# Altium integrated library SparkFun-IC-Special-Function.Library.IntLib: 58 symbols
Pins are listed as number, name and electrical type; pins without a type are passive.

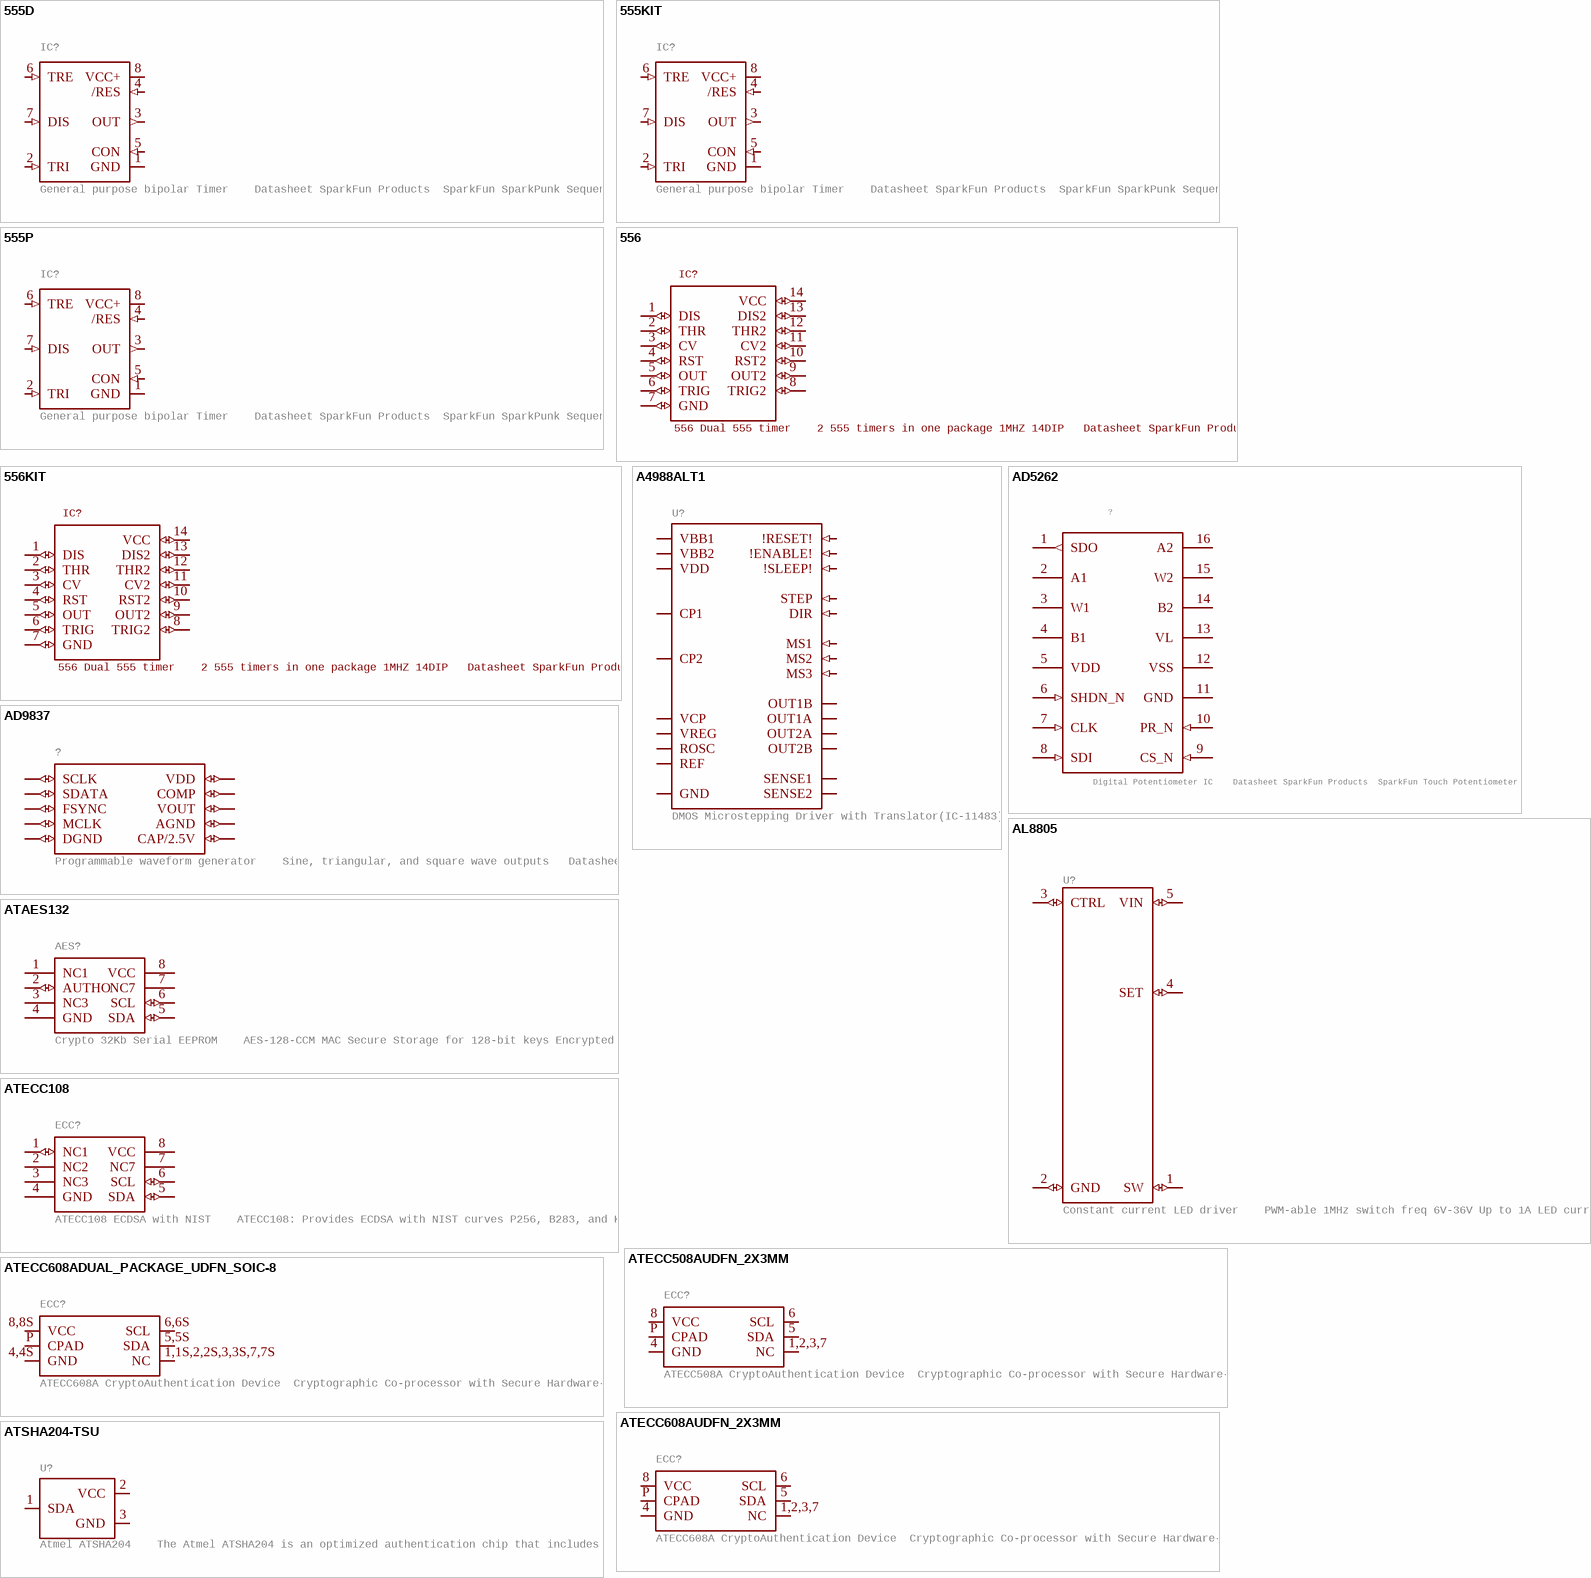
[diagram p0: symbols 555D to ATSHA204-TSU]

## 555D
designator IC?, comment General purpose bipolar Timer    Datasheet SparkFun Products  SparkFun SparkPunk Sequencer Kit (KIT-12707)  Storefront Component: 555 Timer (COM-09273)    Two parts valid for production:  VFP: IC-11930 (M7555 PTH) VFP: IC-09173 (555 PTH) - Preferred
GateName_1: G$1; SymbolName_1: NE555; DeviceName: D; DeviceSetName: 555; PROD_ID: NA-XXXXX; LibraryName: SparkFun-IC-Special-Function; Package: SO08
footprint SO08
pins: 1 GND (power), 2 TRI (in), 3 OUT (out), 4 /RES (in), 5 CON (in), 6 TRE (in), 7 DIS (in), 8 VCC+ (power)

## 555KIT
designator IC?, comment General purpose bipolar Timer    Datasheet SparkFun Products  SparkFun SparkPunk Sequencer Kit (KIT-12707)  Storefront Component: 555 Timer (COM-09273)    Two parts valid for production:  VFP: IC-11930 (M7555 PTH) VFP: IC-09173 (555 PTH) - Preferred
GateName_1: G$1; SymbolName_1: NE555; DeviceSetName: 555; DeviceName: KIT; LibraryName: SparkFun-IC-Special-Function; Package: DIP08-KIT; PROD_ID: IC-09173; PROD_ID_ALT: IC-11930
footprint DIP08-KIT
pins: 1 GND (power), 2 TRI (in), 3 OUT (out), 4 /RES (in), 5 CON (in), 6 TRE (in), 7 DIS (in), 8 VCC+ (power)

## 555P
designator IC?, comment General purpose bipolar Timer    Datasheet SparkFun Products  SparkFun SparkPunk Sequencer Kit (KIT-12707)  Storefront Component: 555 Timer (COM-09273)    Two parts valid for production:  VFP: IC-11930 (M7555 PTH) VFP: IC-09173 (555 PTH) - Preferred
GateName_1: G$1; SymbolName_1: NE555; DeviceName: P; DeviceSetName: 555; LibraryName: SparkFun-IC-Special-Function; Package: DIP08; PROD_ID: IC-09173; PROD_ID_ALT: IC-09173
footprint DIP08
pins: 1 GND (power), 2 TRI (in), 3 OUT (out), 4 /RES (in), 5 CON (in), 6 TRE (in), 7 DIS (in), 8 VCC+ (power)

## 556
designator IC?, comment 556 Dual 555 timer    2 555 timers in one package 1MHZ 14DIP   Datasheet SparkFun Products  SparkFun SparkPunk Sound Kit (KIT-11177)
GateName_1: G$1; SymbolName_1: 556_TIMER_DUAL; DeviceSetName: 556; PROD_ID: IC-11898; LibraryName: SparkFun-IC-Special-Function; Package: DIP14
footprint DIP14
pins: 1 DIS (io), 2 THR (io), 3 CV (io), 4 RST (io), 5 OUT (io), 6 TRIG (io), 7 GND (io), 8 TRIG2 (io), 9 OUT2 (io), 10 RST2 (io), 11 CV2 (io), 12 THR2 (io), 13 DIS2 (io), 14 VCC (io)

## 556KIT
designator IC?, comment 556 Dual 555 timer    2 555 timers in one package 1MHZ 14DIP   Datasheet SparkFun Products  SparkFun SparkPunk Sound Kit (KIT-11177)
GateName_1: G$1; SymbolName_1: 556_TIMER_DUAL; DeviceSetName: 556; PROD_ID: IC-11898; DeviceName: KIT; LibraryName: SparkFun-IC-Special-Function; Package: DIP14-KIT
footprint DIP14-KIT
pins: 1 DIS (io), 2 THR (io), 3 CV (io), 4 RST (io), 5 OUT (io), 6 TRIG (io), 7 GND (io), 8 TRIG2 (io), 9 OUT2 (io), 10 RST2 (io), 11 CV2 (io), 12 THR2 (io), 13 DIS2 (io), 14 VCC (io)

## A4988ALT1
designator U?, comment DMOS Microstepping Driver with Translator(IC-11483)
GateName_1: G$1; SymbolName_1: A498X; DeviceName: ALT1; DeviceSetName: A4988; LibraryName: SparkFun-IC-Special-Function; Package: QFN-28-5MM; PROD_ID: IC-11483
footprint QFN-28-5MM
pins: 1 OUT2B (io), 2 !ENABLE! (in), 3,18,29 GND (power), 4 CP1 (io), 5 CP2 (io), 6 VCP (io), 8 VREG (io), 9 MS1 (in), 10 MS2 (in), 11 MS3 (in), 12 !RESET! (in), 13 ROSC (io), 14 !SLEEP! (in), 15 VDD (power), 16 STEP (in), 17 REF (io), 19 DIR (in), 21 OUT1B (io), 22 VBB1 (io), 23 SENSE1 (io), 24 OUT1A (io), 26 OUT2A (io), 27 SENSE2 (io), 28 VBB2 (io)

## AD5262
designator ?, comment Digital Potentiometer IC    Datasheet SparkFun Products  SparkFun Touch Potentiometer (PRT-13144)
GateName_1: 1; SymbolName_1: AD5262; PROD_ID: IC-12358; LibraryName: SparkFun-IC-Special-Function; DeviceSetName: AD5262; Package: SSOP16
footprint SSOP16
pins: 1 SDO (out), 2 A1, 3 W1, 4 B1, 5 VDD (power), 6 SHDN_N (in), 7 CLK (in), 8 SDI (in), 9 CS_N (in), 10 PR_N (in), 11 GND (power), 12 VSS (power), 13 VL (power), 14 B2, 15 W2, 16 A2

## AD9837
designator ?, comment Programmable waveform generator    Sine, triangular, and square wave outputs   Datasheet SparkFun Products  SparkFun MiniGen - Pro Mini Signal Generator Shield (BOB-11420)
GateName_1: G1; SymbolName_1: AD9837; PROD_ID: IC-11223; LibraryName: SparkFun-IC-Special-Function; DeviceSetName: AD9837; Package: AD9837
footprint AD9837
pins: P$0,P$4 DGND (io), P$1 COMP (io), P$2 VDD (io), P$3 CAP/2.5V (io), P$5 MCLK (io), P$6 SDATA (io), P$7 SCLK (io), P$8 FSYNC (io), P$9 AGND (io), P$10 VOUT (io)

## AL8805
designator U?, comment Constant current LED driver    PWM-able 1MHz switch freq 6V-36V Up to 1A LED current
GateName_1: G$1; SymbolName_1: AL8805; PROD_ID: IC-11626; LibraryName: SparkFun-IC-Special-Function; DeviceSetName: AL8805; Package: SOT23-5
footprint SOT23-5
pins: 1 SW (io), 2 GND (io), 3 CTRL (io), 4 SET (io), 5 VIN (io)

## ATAES132
designator AES?, comment Crypto 32Kb Serial EEPROM    AES-128-CCM MAC Secure Storage for 128-bit keys Encrypted User Memory Readn and Write HWRNG 2.5V to 5.5V    Datasheet SparkFun Products  CryptoCape (DEV-12773)  SparkFun CryptoShield (DEV-13183)
GateName_1: G$1; SymbolName_1: ATAES132; PROD_ID: IC-11983; LibraryName: SparkFun-IC-Special-Function; DeviceSetName: ATAES132; Package: SO08
footprint SO08
pins: 1 NC1, 2 AUTHO (io), 3 NC3, 4 GND (power), 5 SDA (io), 6 SCL (io), 7 NC7, 8 VCC (power)

## ATECC108
designator ECC?, comment ATECC108 ECDSA with NIST    ATECC108: Provides ECDSA with NIST curves P256, B283, and K283.  Also, a RNG, 8.5Kb EEPROM.  2.0V - 5.5V.   Datasheet SparkFun Products  CryptoCape (DEV-12773)  SparkFun CryptoShield (DEV-13183)
GateName_1: G$1; PROD_ID: IC-11982; SymbolName_1: ATECC108; LibraryName: SparkFun-IC-Special-Function; DeviceSetName: ATECC108; Package: SO08
footprint SO08
pins: 1 NC1 (io), 2 NC2, 3 NC3, 4 GND (power), 5 SDA (io), 6 SCL (io), 7 NC7, 8 VCC (power)

## ATECC508AUDFN_2X3MM
designator ECC?, comment ATECC508A CryptoAuthentication Device  Cryptographic Co-processor with Secure Hardware-Based Key Storage  ECDSA: FIPS186-3 Elliptic Curve Digital Signature Algorithm  ECDH: FIPS SP800-56A Elliptic Curve Diffie-Hellman Algorithm   NIST Standard P256 Elliptic Curve Support  SHA-256 Hash Algorithm with HMAC Option  1 MHz Standard I2C Interface  2.0V to 5.5V Supply Voltage Range  1.8V to 5.5V IO levels          Datasheet SparkFun Products  SparkFun Cryptographic Co-Processor Breakout ATECC508A Qwiic (DEV-15573)
GateName_1: G$1; SymbolName_1: ATECC108-1; DeviceName: UDFN_2X3MM; PROD_ID: IC-14661; LibraryName: SparkFun-IC-Special-Function; DeviceSetName: ATECC508A; Package: UDFN_2X3MM
footprint UDFN_2X3MM
pins: 1,2,3,7 NC, 4 GND (power), 5 SDA (io), 6 SCL (io), 8 VCC (power), P CPAD (power)

## ATECC608ADUAL_PACKAGE_UDFN_SOIC-8
designator ECC?, comment ATECC608A CryptoAuthentication Device  Cryptographic Co-processor with Secure Hardware-Based Key Storage  ECDSA: FIPS186-3 Elliptic Curve Digital Signature Algorithm  ECDH: FIPS SP800-56A Elliptic Curve Diffie-Hellman Algorithm  AES Algorithm for encryption and decryption   NIST Standard P256 Elliptic Curve Support  SHA-256 Hash Algorithm with HMAC Option  1 MHz Standard I2C Interface  2.0V to 5.5V Supply Voltage Range  1.8V to 5.5V IO levels          Datasheet (summary) SparkFun Products  SparkFun Cryptographic Co-Processor Breakout - ATECC608A (Qwiic) (DEV-18077)
GateName_1: G$1; SymbolName_1: ATECCX08; DeviceName: DUAL_PACKAGE_UDFN_SOIC-8; PROD_ID: IC-15951; LibraryName: SparkFun-IC-Special-Function; DeviceSetName: ATECC608A; Package: DUAL_UDFN_2X3MM_SOIC-8
footprint DUAL_UDFN_2X3MM_SOIC-8
pins: 1,1S,2,2S,3,3S,7,7S NC, 4,4S GND (power), 5,5S SDA (io), 6,6S SCL (io), 8,8S VCC (power), P CPAD (power)

## ATECC608AUDFN_2X3MM
designator ECC?, comment ATECC608A CryptoAuthentication Device  Cryptographic Co-processor with Secure Hardware-Based Key Storage  ECDSA: FIPS186-3 Elliptic Curve Digital Signature Algorithm  ECDH: FIPS SP800-56A Elliptic Curve Diffie-Hellman Algorithm  AES Algorithm for encryption and decryption   NIST Standard P256 Elliptic Curve Support  SHA-256 Hash Algorithm with HMAC Option  1 MHz Standard I2C Interface  2.0V to 5.5V Supply Voltage Range  1.8V to 5.5V IO levels          Datasheet (summary) SparkFun Products  SparkFun Cryptographic Co-Processor Breakout - ATECC608A (Qwiic) (DEV-18077)
GateName_1: G$1; SymbolName_1: ATECCX08; DeviceName: UDFN_2X3MM; PROD_ID: IC-15933; LibraryName: SparkFun-IC-Special-Function; DeviceSetName: ATECC608A; Package: UDFN_2X3MM
footprint UDFN_2X3MM
pins: 1,2,3,7 NC, 4 GND (power), 5 SDA (io), 6 SCL (io), 8 VCC (power), P CPAD (power)

## ATSHA204-TSU
designator U?, comment Atmel ATSHA204    The Atmel ATSHA204 is an optimized authentication chip that includes a 4.5Kb EEPROM. This array can be used for storage of keys, miscellaneous read/write, read-only, password or secret data, and consumption tracking. Access to the various sections of memory can be restricted in a variety of ways and then the configuration locked to prevent changes.   Datasheet SparkFun Products  SparkFun Electric Imp Shield    SparkFun Electric Imp Breakout
GateName_1: G$1; DeviceName: -TSU; PROD_ID: IC-11208; SymbolName_1: ATSHA204; LibraryName: SparkFun-IC-Special-Function; DeviceSetName: ATSHA204; Package: SOT23-3
footprint SOT23-3
pins: 1 SDA (io), 2 VCC (io), 3 GND (io)

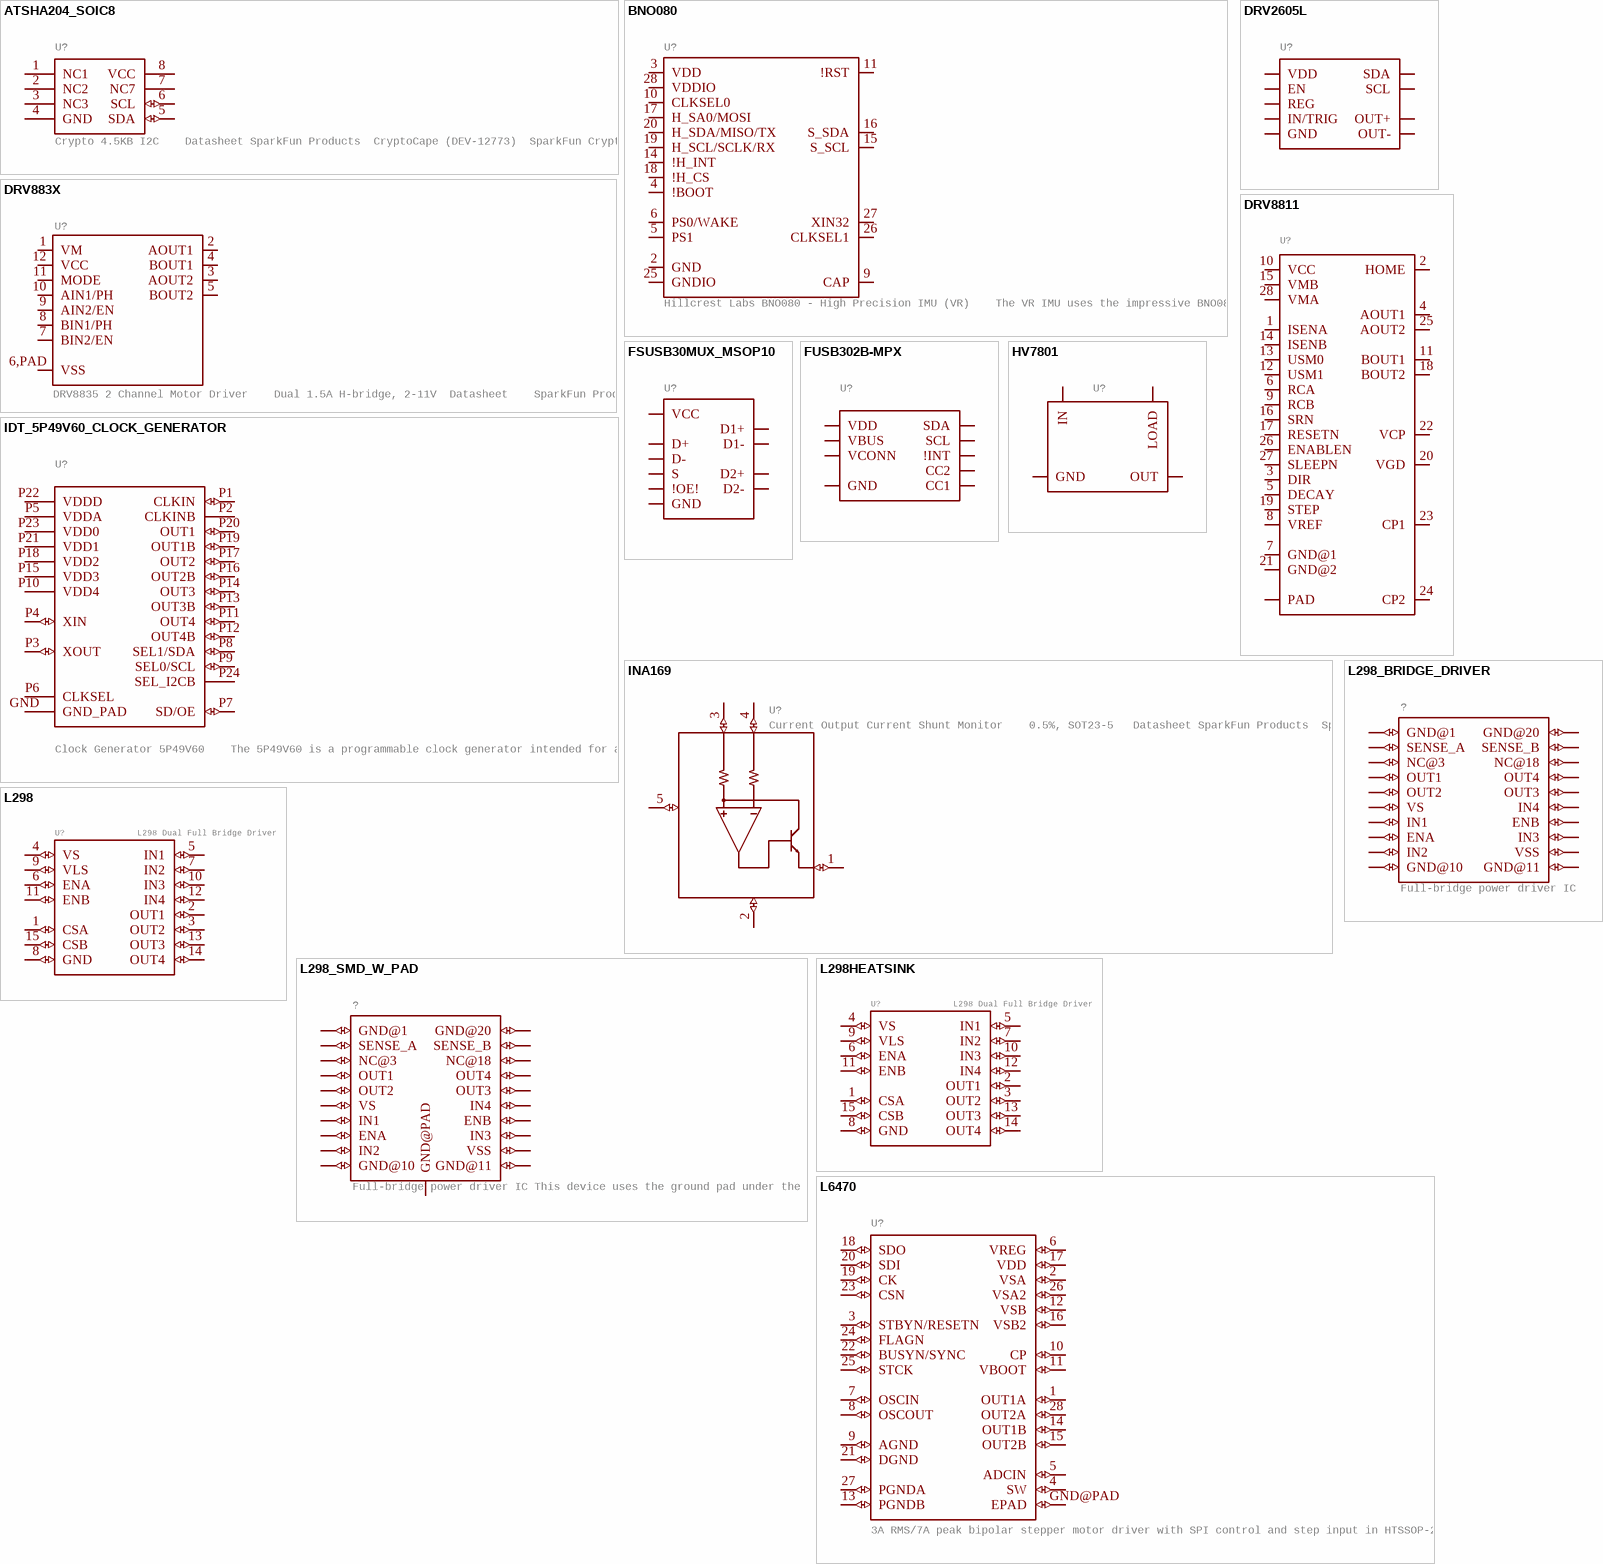
[diagram p1: symbols ATSHA204_SOIC8 to L6470]

## ATSHA204_SOIC8
designator U?, comment Crypto 4.5KB I2C    Datasheet SparkFun Products  CryptoCape (DEV-12773)  SparkFun CryptoShield (DEV-13183)
GateName_1: G$1; SymbolName_1: ATSHA204-1; DeviceSetName: ATSHA204_SOIC8; PROD_ID: IC-11981; LibraryName: SparkFun-IC-Special-Function; Package: SO08
footprint SO08
pins: 1 NC1, 2 NC2, 3 NC3, 4 GND (power), 5 SDA (io), 6 SCL (io), 7 NC7, 8 VCC (power)

## BNO080
designator U?, comment Hillcrest Labs BNO080 - High Precision IMU (VR)    The VR IMU uses the impressive BNO080 IMU. This IC has a combination triple axis accelerometer/gyro/magnetometer packaged with an ARM Cortex M0+ running powerful algorithms. The BNO080 Inertial Measurement Unit (IMU) produces accurate rotation vector headings, excellently suited for VR and other heading applications with a static rotation error of 2 degrees or less. Itâ€™s what weâ€™ve been waiting for: all the sensor data is combined and drift corrected into meaningful, accurate IMU information.   SparkFun Products: VR IMU (BNO080)
GateName_1: U1; SymbolName_1: BNO080-IMU; PROD_ID: SEN-13947; LibraryName: SparkFun-IC-Special-Function; DeviceSetName: BNO080; Package: LGA-28
footprint LGA-28
pins: 2 GND (io), 3 VDD (io), 4 !BOOT (io), 5 PS1 (io), 6 PS0/WAKE (io), 9 CAP (io), 10 CLKSEL0 (io), 11 !RST (io), 14 !H_INT (io), 15 S_SCL (io), 16 S_SDA (io), 17 H_SA0/MOSI (io), 18 !H_CS (io), 19 H_SCL/SCLK/RX (io), 20 H_SDA/MISO/TX (io), 25 GNDIO (io), 26 CLKSEL1 (io), 27 XIN32 (io), 28 VDDIO (io)

## DRV883X
designator U?, comment DRV8835 2 Channel Motor Driver    Dual 1.5A H-bridge, 2-11V  Datasheet    SparkFun Products: SparkFun Serial Controlled Motor Driver
GateName_1: G$1; DeviceSetName: DRV883X; PROD_ID: IC-13342; SymbolName_1: DRV8835; LibraryName: SparkFun-IC-Special-Function; Package: WSON-12
footprint WSON-12
pins: 1 VM (io), 2 AOUT1 (io), 3 AOUT2 (io), 4 BOUT1 (io), 5 BOUT2 (io), 6,PAD VSS (io), 7 BIN2/EN (io), 8 BIN1/PH (io), 9 AIN2/EN (io), 10 AIN1/PH (io), 11 MODE (io), 12 VCC (io)

## DRV2605L
designator U?
GateName_1: DRV2605; SymbolName_1: DRV2605L; PROD_ID: IC-13504; LibraryName: SparkFun-IC-Special-Function; DeviceSetName: DRV2605L; Package: VSSOP-10
footprint VSSOP-10
pins: 1 REG (io), 2 SCL (io), 3 SDA (io), 4 IN/TRIG (io), 5 EN (io), 6,10 VDD (io), 7 OUT+ (io), 8 GND (io), 9 OUT- (io)

## DRV8811
designator U?
GateName_1: G$1; SymbolName_1: DRV8811; PROD_ID: IC-12375; LibraryName: SparkFun-IC-Special-Function; DeviceSetName: DRV8811; Package: HTSSOP28
footprint HTSSOP28
pins: 1 ISENA (io), 2 HOME (io), 3 DIR (io), 4 AOUT1 (io), 5 DECAY (io), 6 RCA (io), 7 GND@1 (io), 8 VREF (io), 9 RCB (io), 10 VCC (io), 11 BOUT1 (io), 12 USM1 (io), 13 USM0 (io), 14 ISENB (io), 15 VMB (io), 16 SRN (io), 17 RESETN (io), 18 BOUT2 (io), 19 STEP (io), 20 VGD (io), 21 GND@2 (io), 22 VCP (io), 23 CP1 (io), 24 CP2 (io), 25 AOUT2 (io), 26 ENABLEN (io), 27 SLEEPN (io), 28 VMA (io), GND@10,GND@11,GND@12,GND@13,GND@14,GND@15,GND@16,GND@17,GND@18,GND@19,GND@20,GND@21,GND@22,GND@23,GND@24,GND@25,GND@26,GND@27,GND@28,GND@29,GND@30,GND@PAD PAD (io)

## FSUSB30MUX_MSOP10
designator U?
GateName_1: U1; SymbolName_1: FSUSB30MUX; DeviceName: _MSOP10; PROD_ID: IC-15569; LibraryName: SparkFun-IC-Special-Function; DeviceSetName: FSUSB30MUX; Package: MSOP10
footprint MSOP10
pins: 1 S (io), 2 D1+ (io), 3 D2+ (io), 4 D+ (io), 5 GND (io), 6 D- (io), 7 D2- (io), 8 D1- (io), 9 !OE! (io), 10 VCC (io)

## FUSB302B-MPX
designator U?
GateName_1: G$1; SymbolName_1: FUSB302; DeviceName: -MPX; DeviceSetName: FUSB302B; LibraryName: SparkFun-IC-Special-Function; Package: WQFN14
footprint WQFN14
pins: 1,14 CC2 (io), 2 VBUS (io), 3,4 VDD (io), 5 !INT (io), 6 SCL (io), 7 SDA (io), 8,9,PAD GND (io), 10,11 CC1 (io), 12,13 VCONN (io)

## HV7801
designator U?
GateName_1: U1; SymbolName_1: HV7801; LibraryName: SparkFun-IC-Special-Function; DeviceSetName: HV7801; Package: SOT23-5
footprint SOT23-5
pins: 1 LOAD (power), 3 IN (io), 4 GND (power), 5 OUT (io)

## IDT_5P49V60_CLOCK_GENERATOR
designator U?, comment Clock Generator 5P49V60    The 5P49V60 is a programmable clock generator intended for automotive applications. Configurations may be stored in on-chip One-Time Programmable (OTP) memory or changed using I2C interface. This is IDTâ€™s sixth generation of programmable clock technology (VersaClock 6E).    The frequencies are generated from a single reference clock. The reference clock can come from one of the two redundant clock inputs. A glitchless manual switchover function allows one of the redundant clocks to be selected during normal operation.    Two select pins allow up to four different configurations to be programmed and accessible using processor GPIOs or bootstrapping. The different selections may be used for different operating modes (full function, partial function, partial power-down), regional standards (US, Japan, Europe) or system production margin testing. The device may be configured to use one of two I2C addresses to allow multiple devices to be used in a system.
GateName_1: G$1; DeviceSetName: IDT_5P49V60_CLOCK_GENERATOR; PROD_ID: IC-14612; SymbolName_1: 5P49V60; LibraryName: SparkFun-IC-Special-Function; Package: VFQFPN-24
footprint VFQFPN-24
pins: GND GND_PAD (power), P1 CLKIN (io), P2 CLKINB (power), P3 XOUT (io), P4 XIN (io), P5 VDDA (power), P6 CLKSEL (power), P7 SD/OE (io), P8 SEL1/SDA (io), P9 SEL0/SCL (io), P10 VDD4 (power), P11 OUT4 (io), P12 OUT4B (io), P13 OUT3B (io), P14 OUT3 (io), P15 VDD3 (power), P16 OUT2B (io), P17 OUT2 (io), P18 VDD2 (power), P19 OUT1B (io), P20 OUT1 (io), P21 VDD1 (power), P22 VDDD (power), P23 VDD0 (power), P24 SEL_I2CB (power)

## INA169
designator U?, comment Current Output Current Shunt Monitor    0.5%, SOT23-5   Datasheet SparkFun Products  SparkFun Current Sensor Breakout - INA169 (SEN-12040)
GateName_1: G$1; PROD_ID: IC-11776; SymbolName_1: INA169; LibraryName: SparkFun-IC-Special-Function; DeviceSetName: INA169; Package: SOT23-5
footprint SOT23-5
pins: 1 OUT (io), 2 GND (io), 3 VIN+ (io), 4 VIN- (io), 5 V+ (io)

## L298
designator U?, comment L298 Dual Full Bridge Driver
GateName_1: G$1; SymbolName_1: L298; LibraryName: SparkFun-IC-Special-Function; DeviceSetName: L298; Package: MULTIWATT15
footprint MULTIWATT15
pins: 1 CSA (io), 2 OUT1 (io), 3 OUT2 (io), 4 VS (io), 5 IN1 (io), 6 ENA (io), 7 IN2 (io), 8 GND (io), 9 VLS (io), 10 IN3 (io), 11 ENB (io), 12 IN4 (io), 13 OUT3 (io), 14 OUT4 (io), 15 CSB (io)

## L298_BRIDGE_DRIVER
designator ?, comment Full-bridge power driver IC
GateName_1: G$1; SymbolName_1: L298_BRIDGE_DRIVER; PROD_ID: IC-09133; LibraryName: SparkFun-IC-Special-Function; DeviceSetName: L298_BRIDGE_DRIVER; Package: POWERSO20
footprint POWERSO20
pins: 1 GND@1 (io), 2 SENSE_A (io), 3 NC@3 (io), 4 OUT1 (io), 5 OUT2 (io), 6 VS (io), 7 IN1 (io), 8 ENA (io), 9 IN2 (io), 10 GND@10 (io), 11 GND@11 (io), 12 VSS (io), 13 IN3 (io), 14 ENB (io), 15 IN4 (io), 16 OUT3 (io), 17 OUT4 (io), 18 NC@18 (io), 19 SENSE_B (io), 20 GND@20 (io)

## L298_SMD_W_PAD
designator ?, comment Full-bridge power driver IC This device uses the ground pad under the IC
GateName_1: G$1; SymbolName_1: L298_SMD_W_PAD; PROD_ID: IC-09133; LibraryName: SparkFun-IC-Special-Function; DeviceSetName: L298_SMD_W_PAD; Package: POWERSO20_L298_PAD
footprint POWERSO20_L298_PAD
pins: 1 GND@1 (io), 2 SENSE_A (io), 3 NC@3 (io), 4 OUT1 (io), 5 OUT2 (io), 6 VS (io), 7 IN1 (io), 8 ENA (io), 9 IN2 (io), 10 GND@10 (io), 11 GND@11 (io), 12 VSS (io), 13 IN3 (io), 14 ENB (io), 15 IN4 (io), 16 OUT3 (io), 17 OUT4 (io), 18 NC@18 (io), 19 SENSE_B (io), 20 GND@20 (io), PAD GND@PAD (io)

## L298HEATSINK
designator U?, comment L298 Dual Full Bridge Driver
GateName_1: G$1; DeviceName: HEATSINK; SymbolName_1: L298; LibraryName: SparkFun-IC-Special-Function; DeviceSetName: L298; Package: MULTIWATT15_6400BGHEATSINK
footprint MULTIWATT15_6400BGHEATSINK
pins: 1 CSA (io), 2 OUT1 (io), 3 OUT2 (io), 4 VS (io), 5 IN1 (io), 6 ENA (io), 7 IN2 (io), 8 GND (io), 9 VLS (io), 10 IN3 (io), 11 ENB (io), 12 IN4 (io), 13 OUT3 (io), 14 OUT4 (io), 15 CSB (io)

## L6470
designator U?, comment 3A RMS/7A peak bipolar stepper motor driver with SPI control and step input in HTSSOP-28 package. IC-10648
GateName_1: G$1; SymbolName_1: L6470; LibraryName: SparkFun-IC-Special-Function; DeviceSetName: L6470; Package: HTSSOP28; PROD_ID: IC-10648
footprint HTSSOP28
pins: 1 OUT1A (io), 2 VSA (io), 3 STBYN/RESETN (io), 4 SW (io), 5 ADCIN (io), 6 VREG (io), 7 OSCIN (io), 8 OSCOUT (io), 9 AGND (io), 10 CP (io), 11 VBOOT (io), 12 VSB (io), 13 PGNDB (io), 14 OUT1B (io), 15 OUT2B (io), 16 VSB2 (io), 17 VDD (io), 18 SDO (io), 19 CK (io), 20 SDI (io), 21 DGND (io), 22 BUSYN/SYNC (io), 23 CSN (io), 24 FLAGN (io), 25 STCK (io), 26 VSA2 (io), 27 PGNDA (io), 28 OUT2A (io), GND@PAD EPAD (io)

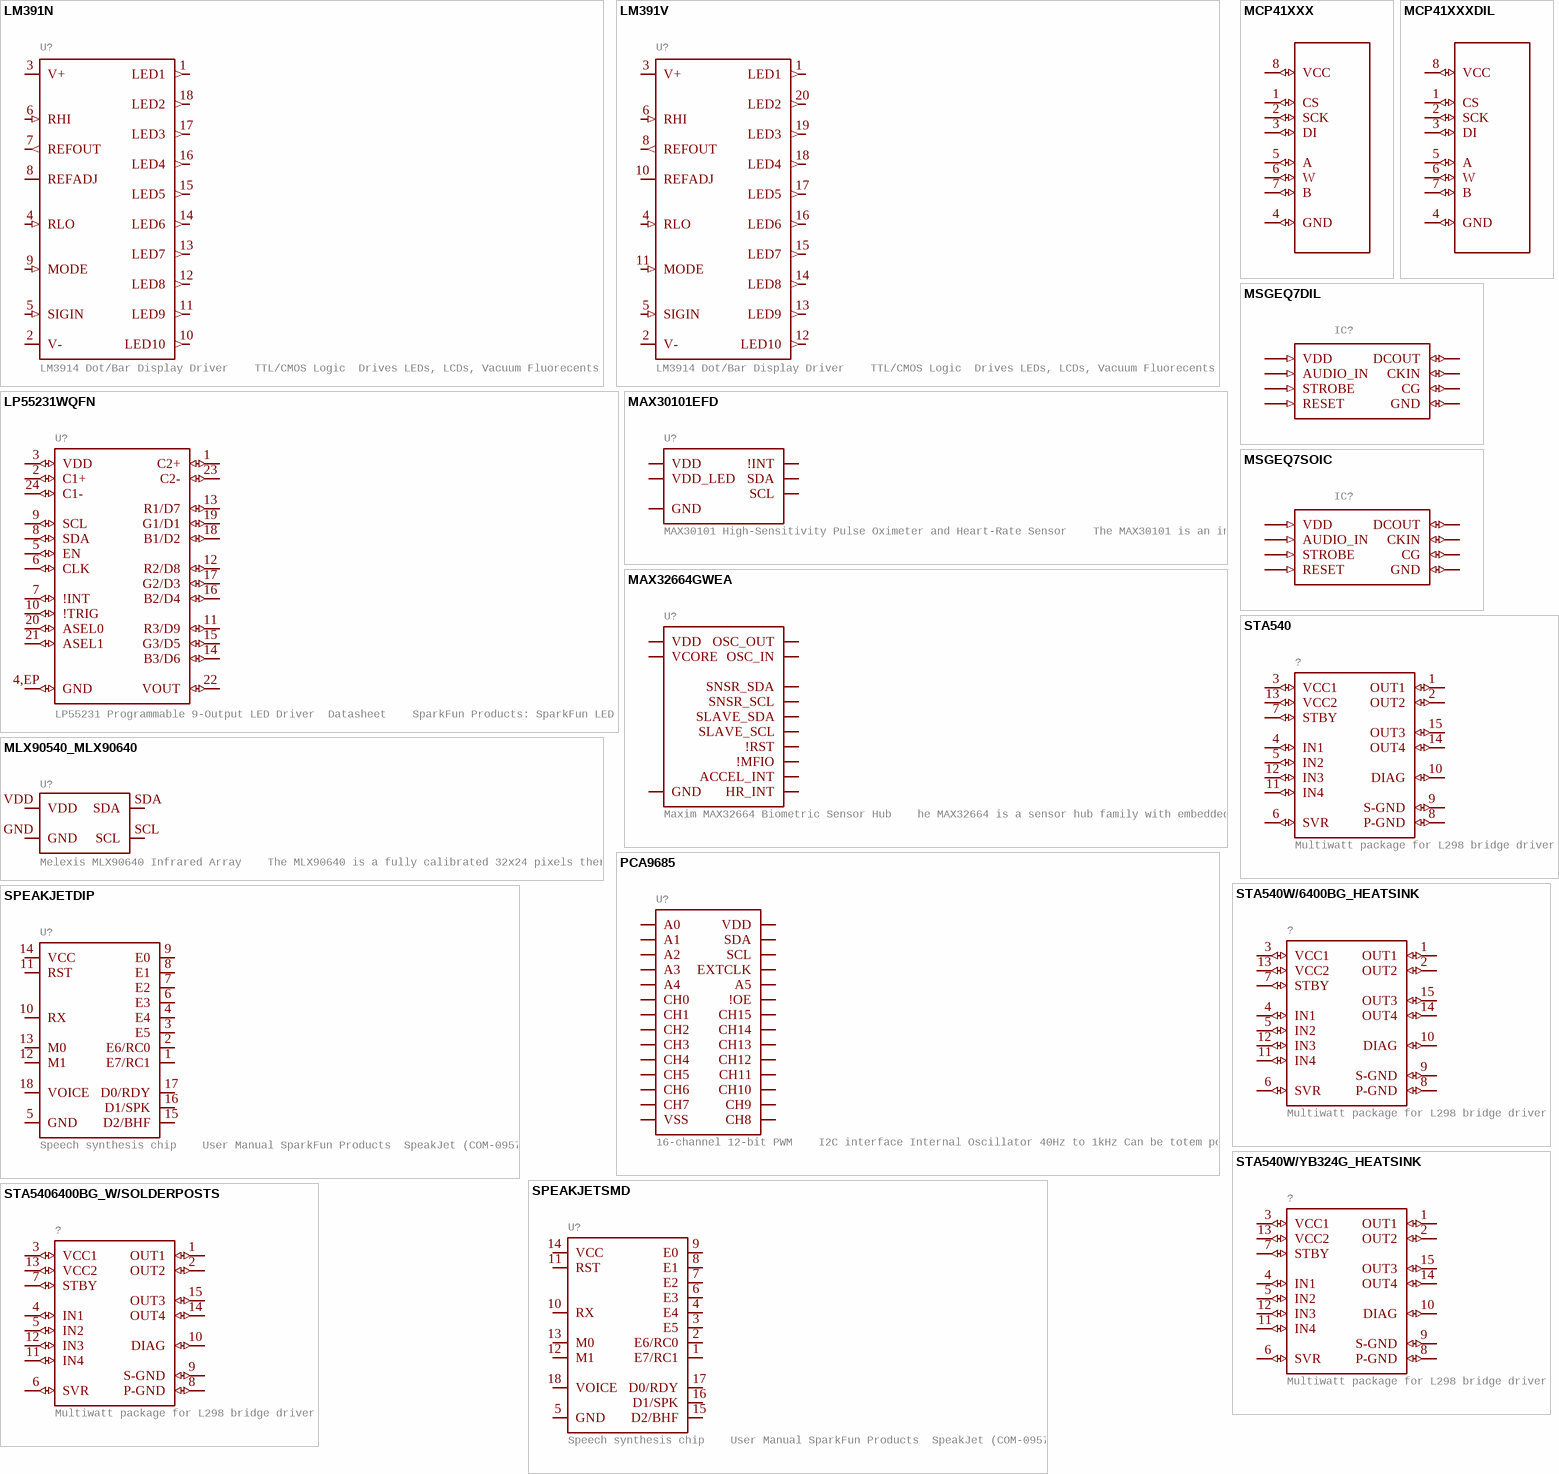
[diagram p2: symbols LM391N to STA5406400BG_W/SOLDERPOSTS]

## LM391N
designator U?, comment LM3914 Dot/Bar Display Driver    TTL/CMOS Logic  Drives LEDs, LCDs, Vacuum Fluorecents  Source:  Data sheet LM3915  Data sheet LM3914    SparkFun Products: MyoWare LED Shield  Dot/Bar Display Driver - LM3914
GateName_1: G$1; DeviceName: N; DeviceSetName: LM391; SF_ID: COM-12694; SymbolName_1: LM3915; LibraryName: SparkFun-IC-Special-Function; Package: DIL18
footprint DIL18
pins: 1 LED1 (out), 2 V- (power), 3 V+ (power), 4 RLO (in), 5 SIGIN (in), 6 RHI (in), 7 REFOUT (out), 8 REFADJ, 9 MODE (in), 10 LED10 (out), 11 LED9 (out), 12 LED8 (out), 13 LED7 (out), 14 LED6 (out), 15 LED5 (out), 16 LED4 (out), 17 LED3 (out), 18 LED2 (out)

## LM391V
designator U?, comment LM3914 Dot/Bar Display Driver    TTL/CMOS Logic  Drives LEDs, LCDs, Vacuum Fluorecents  Source:  Data sheet LM3915  Data sheet LM3914    SparkFun Products: MyoWare LED Shield  Dot/Bar Display Driver - LM3914
GateName_1: G$1; DeviceName: V; DeviceSetName: LM391; PROD_ID: IC-13110; SymbolName_1: LM3915; LibraryName: SparkFun-IC-Special-Function; Package: PLCC20S
footprint PLCC20S
pins: 1 LED1 (out), 2 V- (power), 3 V+ (power), 4 RLO (in), 5 SIGIN (in), 6 RHI (in), 8 REFOUT (out), 10 REFADJ, 11 MODE (in), 12 LED10 (out), 13 LED9 (out), 14 LED8 (out), 15 LED7 (out), 16 LED6 (out), 17 LED5 (out), 18 LED4 (out), 19 LED3 (out), 20 LED2 (out)

## LP55231WQFN
designator U?, comment LP55231 Programmable 9-Output LED Driver  Datasheet    SparkFun Products: SparkFun LED Driver Breakout - LP55231
GateName_1: G$1; DeviceName: WQFN; PROD_ID: IC-13302; SymbolName_1: LP55231; LibraryName: SparkFun-IC-Special-Function; DeviceSetName: LP55231; Package: WQFN-24
footprint WQFN-24
pins: 1 C2+ (io), 2 C1+ (io), 3 VDD (io), 4,EP GND (io), 5 EN (io), 6 CLK (io), 7 !INT (io), 8 SDA (io), 9 SCL (io), 10 !TRIG (io), 11 R3/D9 (io), 12 R2/D8 (io), 13 R1/D7 (io), 14 B3/D6 (io), 15 G3/D5 (io), 16 B2/D4 (io), 17 G2/D3 (io), 18 B1/D2 (io), 19 G1/D1 (io), 20 ASEL0 (io), 21 ASEL1 (io), 22 VOUT (io), 23 C2- (io), 24 C1- (io)

## MAX30101EFD
designator U?, comment MAX30101 High-Sensitivity Pulse Oximeter and Heart-Rate Sensor    The MAX30101 is an integrated pulse oximetry and heart-rate monitor module. It includes internal LEDs, photodetectors, optical elements, and low-noise electronics with ambient light rejection. The MAX30101 provides a complete system solution to ease the design-in process for mobile and wearable devices.    The MAX30101 operates on a single 1.8V power supply and a separate 5.0V power supply for the internal LEDs. Communication is through a standard I2C-compatible interface. The module can be shut down through software with zero standby current, allowing the power rails to remain powered at all times
GateName_1: U1; DeviceSetName: MAX30101EFD; PROD_ID: IC-14270; SymbolName_1: MAX30101; LibraryName: SparkFun-IC-Special-Function; Package: 14_PIN_OESIP
footprint 14_PIN_OESIP
pins: P2 SCL (io), P3 SDA (io), P4,12 GND (power), P9,10 VDD_LED (power), P11 VDD (power), P13 !INT (io)

## MAX32664GWEA
designator U?, comment Maxim MAX32664 Biometric Sensor Hub    he MAX32664 is a sensor hub family with embedded firmware and algorithms for wearables. It seamlessly enables customer-desired sensor functionality, including communication with Maximâ€™s optical sensor solutions and delivering raw or calculated data to the outside world. This is achieved while keeping overall system power consumption in check.    The MAX32664 Version A supports the MAX30101/ MAX30102 high-sensitivity pulse oximeter and heart rate sensor for wearable health for finger-based applications.
GateName_1: G$1; DeviceSetName: MAX32664GWEA; PROD_ID: IC-14271; SymbolName_1: MAX32664; LibraryName: SparkFun-IC-Special-Function; Package: 16_PIN_WLP
footprint 16_PIN_WLP
pins: 1 OSC_OUT (io), 2 OSC_IN (io), 3 VDD (power), 4 VCORE (power), 5 SNSR_SCL (io), 6 HR_INT (io), 9 SLAVE_SDA (io), 10 SLAVE_SCL (io), 12 !RST (io), 13 GND (power), 14 SNSR_SDA (io), 15 ACCEL_INT (io), 16 !MFIO (io)

## MCP41XXX
designator U?, comment Digital Potentiometer - 10K    SPI controlled single digital potentiometer by Microchip   Datasheet SparkFun Products  Storefront component: Digital Potentiometer - 10K (COM-10613)  (value not drawn)
GateName_1: G$1; SymbolName_1: MCP41XXX; PROD_ID: NA-XXXXX; LibraryName: SparkFun-IC-Special-Function; DeviceSetName: MCP41XXX; Package: SO08
footprint SO08
pins: 1 CS (io), 2 SCK (io), 3 DI (io), 4 GND (io), 5 A (io), 6 W (io), 7 B (io), 8 VCC (io)

## MCP41XXXDIL
designator U?, comment Digital Potentiometer - 10K    SPI controlled single digital potentiometer by Microchip   Datasheet SparkFun Products  Storefront component: Digital Potentiometer - 10K (COM-10613)  (value not drawn)
GateName_1: G$1; SymbolName_1: MCP41XXX; DeviceName: DIL; PROD_ID: RES-13155; LibraryName: SparkFun-IC-Special-Function; DeviceSetName: MCP41XXX; Package: DIP08
footprint DIP08
pins: 1 CS (io), 2 SCK (io), 3 DI (io), 4 GND (io), 5 A (io), 6 W (io), 7 B (io), 8 VCC (io)

## MLX90540_MLX90640
designator U?, comment Melexis MLX90640 Infrared Array    The MLX90640 is a fully calibrated 32x24 pixels thermal IR array in an industry standard 4-lead TO39 package with digital interface.
GateName_1: G$1; SymbolName_1: MLX90540_MLX90640; PROD_ID: IC-14042; PROD_ID: IC-14041; LibraryName: SparkFun-IC-Special-Function; DeviceSetName: MLX90540_MLX90640; Package: MLX90540_MLX90640
footprint MLX90540_MLX90640
pins: GND (io), SCL (io), SDA (io), VDD (io)

## MSGEQ7DIL
designator IC?, comment 7-band graphic equalizer    This IC is for making a 7 band/channel audio spectrometer. There are two versions of this part.  The DIP available on the storefront, and the SO used in product.    Datasheet SparkFun Products  Storefront component: Graphic Equalizer Display Filter - MSGEQ7 (COM-10468)  SparkFun Spectrum Shield (DEV-13116)  (value not drawn)
GateName_1: G$1; DeviceName: DIL; PROD_ID: IC-12196; SymbolName_1: MSGEQ7; LibraryName: SparkFun-IC-Special-Function; DeviceSetName: MSGEQ7; Package: DIP08
footprint DIP08
pins: 1 VDD (in), 2 GND (io), 3 DCOUT (io), 4 STROBE (in), 5 AUDIO_IN (in), 6 CG (io), 7 RESET (in), 8 CKIN (io)

## MSGEQ7SOIC
designator IC?, comment 7-band graphic equalizer    This IC is for making a 7 band/channel audio spectrometer. There are two versions of this part.  The DIP available on the storefront, and the SO used in product.    Datasheet SparkFun Products  Storefront component: Graphic Equalizer Display Filter - MSGEQ7 (COM-10468)  SparkFun Spectrum Shield (DEV-13116)  (value not drawn)
GateName_1: G$1; DeviceName: SOIC; PROD_ID: IC-10141; SymbolName_1: MSGEQ7; LibraryName: SparkFun-IC-Special-Function; DeviceSetName: MSGEQ7; Package: SO08
footprint SO08
pins: 1 VDD (in), 2 GND (io), 3 DCOUT (io), 4 STROBE (in), 5 AUDIO_IN (in), 6 CG (io), 7 RESET (in), 8 CKIN (io)

## PCA9685
designator U?, comment 16-channel 12-bit PWM    I2C interface Internal Oscillator 40Hz to 1kHz Can be totem pole or open collector 2.3V to 5.5V  SparkFun Products  SparkFun Block for IntelÂ® Edison - PWM (DEV-13042)    PROTO: IC-12240 PROD_ID: IC-12271
GateName_1: G$1; SymbolName_1: PCA9685; LibraryName: SparkFun-IC-Special-Function; DeviceSetName: PCA9685; Package: TSSOP-28_4MM; PROD_ID: IC-12271
footprint TSSOP-28_4MM
pins: 1 A0 (io), 2 A1 (io), 3 A2 (io), 4 A3 (io), 5 A4 (io), 6 CH0 (io), 7 CH1 (io), 8 CH2 (io), 9 CH3 (io), 10 CH4 (io), 11 CH5 (io), 12 CH6 (io), 13 CH7 (io), 14 VSS (io), 15 CH8 (io), 16 CH9 (io), 17 CH10 (io), 18 CH11 (io), 19 CH12 (io), 20 CH13 (io), 21 CH14 (io), 22 CH15 (io), 23 !OE (io), 24 A5 (io), 25 EXTCLK (io), 26 SCL (io), 27 SDA (io), 28 VDD (io)

## SPEAKJETDIP
designator U?, comment Speech synthesis chip    User Manual SparkFun Products  SpeakJet (COM-09578)
GateName_1: G$1; DeviceName: DIP; PROD_ID: IC-09512; SymbolName_1: SPEAKJET; LibraryName: SparkFun-IC-Special-Function; DeviceSetName: SPEAKJET; Package: DIP18
footprint DIP18
pins: 1 E7/RC1 (io), 2 E6/RC0 (io), 3 E5 (io), 4 E4 (io), 5 GND (io), 6 E3 (io), 7 E2 (io), 8 E1 (io), 9 E0 (io), 10 RX (io), 11 RST (io), 12 M1 (io), 13 M0 (io), 14 VCC (io), 15 D2/BHF (io), 16 D1/SPK (io), 17 D0/RDY (io), 18 VOICE (io)

## SPEAKJETSMD
designator U?, comment Speech synthesis chip    User Manual SparkFun Products  SpeakJet (COM-09578)
GateName_1: G$1; DeviceName: SMD; PROD_ID: IC-XXXXX; SymbolName_1: SPEAKJET; LibraryName: SparkFun-IC-Special-Function; DeviceSetName: SPEAKJET; Package: SOIC-18
footprint SOIC-18
pins: 1 E7/RC1 (io), 2 E6/RC0 (io), 3 E5 (io), 4 E4 (io), 5 GND (io), 6 E3 (io), 7 E2 (io), 8 E1 (io), 9 E0 (io), 10 RX (io), 11 RST (io), 12 M1 (io), 13 M0 (io), 14 VCC (io), 15 D2/BHF (io), 16 D1/SPK (io), 17 D0/RDY (io), 18 VOICE (io)

## STA540
designator ?, comment Multiwatt package for L298 bridge driver
GateName_1: G$1; SymbolName_1: STA540; LibraryName: SparkFun-IC-Special-Function; DeviceSetName: STA540; Package: MULTIWATT15
footprint MULTIWATT15
pins: 1 OUT1 (io), 2 OUT2 (io), 3 VCC1 (io), 4 IN1 (io), 5 IN2 (io), 6 SVR (io), 7 STBY (io), 8 P-GND (io), 9 S-GND (io), 10 DIAG (io), 11 IN4 (io), 12 IN3 (io), 13 VCC2 (io), 14 OUT4 (io), 15 OUT3 (io)

## STA540W/6400BG_HEATSINK
designator ?, comment Multiwatt package for L298 bridge driver
GateName_1: G$1; SymbolName_1: STA540; DeviceName: W/6400BG_HEATSINK; LibraryName: SparkFun-IC-Special-Function; DeviceSetName: STA540; Package: MULTIWATT15_6400BGHEATSINK
footprint MULTIWATT15_6400BGHEATSINK
pins: 1 OUT1 (io), 2 OUT2 (io), 3 VCC1 (io), 4 IN1 (io), 5 IN2 (io), 6 SVR (io), 7 STBY (io), 8 P-GND (io), 9 S-GND (io), 10 DIAG (io), 11 IN4 (io), 12 IN3 (io), 13 VCC2 (io), 14 OUT4 (io), 15 OUT3 (io)

## STA540W/YB324G_HEATSINK
designator ?, comment Multiwatt package for L298 bridge driver
GateName_1: G$1; SymbolName_1: STA540; DeviceName: W/YB324G_HEATSINK; LibraryName: SparkFun-IC-Special-Function; DeviceSetName: STA540; Package: MULTIWATT15_YB324GHEATSINK
footprint MULTIWATT15_YB324GHEATSINK
pins: 1 OUT1 (io), 2 OUT2 (io), 3 VCC1 (io), 4 IN1 (io), 5 IN2 (io), 6 SVR (io), 7 STBY (io), 8 P-GND (io), 9 S-GND (io), 10 DIAG (io), 11 IN4 (io), 12 IN3 (io), 13 VCC2 (io), 14 OUT4 (io), 15 OUT3 (io)

## STA5406400BG_W/SOLDERPOSTS
designator ?, comment Multiwatt package for L298 bridge driver
GateName_1: G$1; SymbolName_1: STA540; DeviceName: 6400BG_W/SOLDERPOSTS; LibraryName: SparkFun-IC-Special-Function; DeviceSetName: STA540; Package: MULTIWATT15_6400BGHEATSINK_2
footprint MULTIWATT15_6400BGHEATSINK_2
pins: 1 OUT1 (io), 2 OUT2 (io), 3 VCC1 (io), 4 IN1 (io), 5 IN2 (io), 6 SVR (io), 7 STBY (io), 8 P-GND (io), 9 S-GND (io), 10 DIAG (io), 11 IN4 (io), 12 IN3 (io), 13 VCC2 (io), 14 OUT4 (io), 15 OUT3 (io)

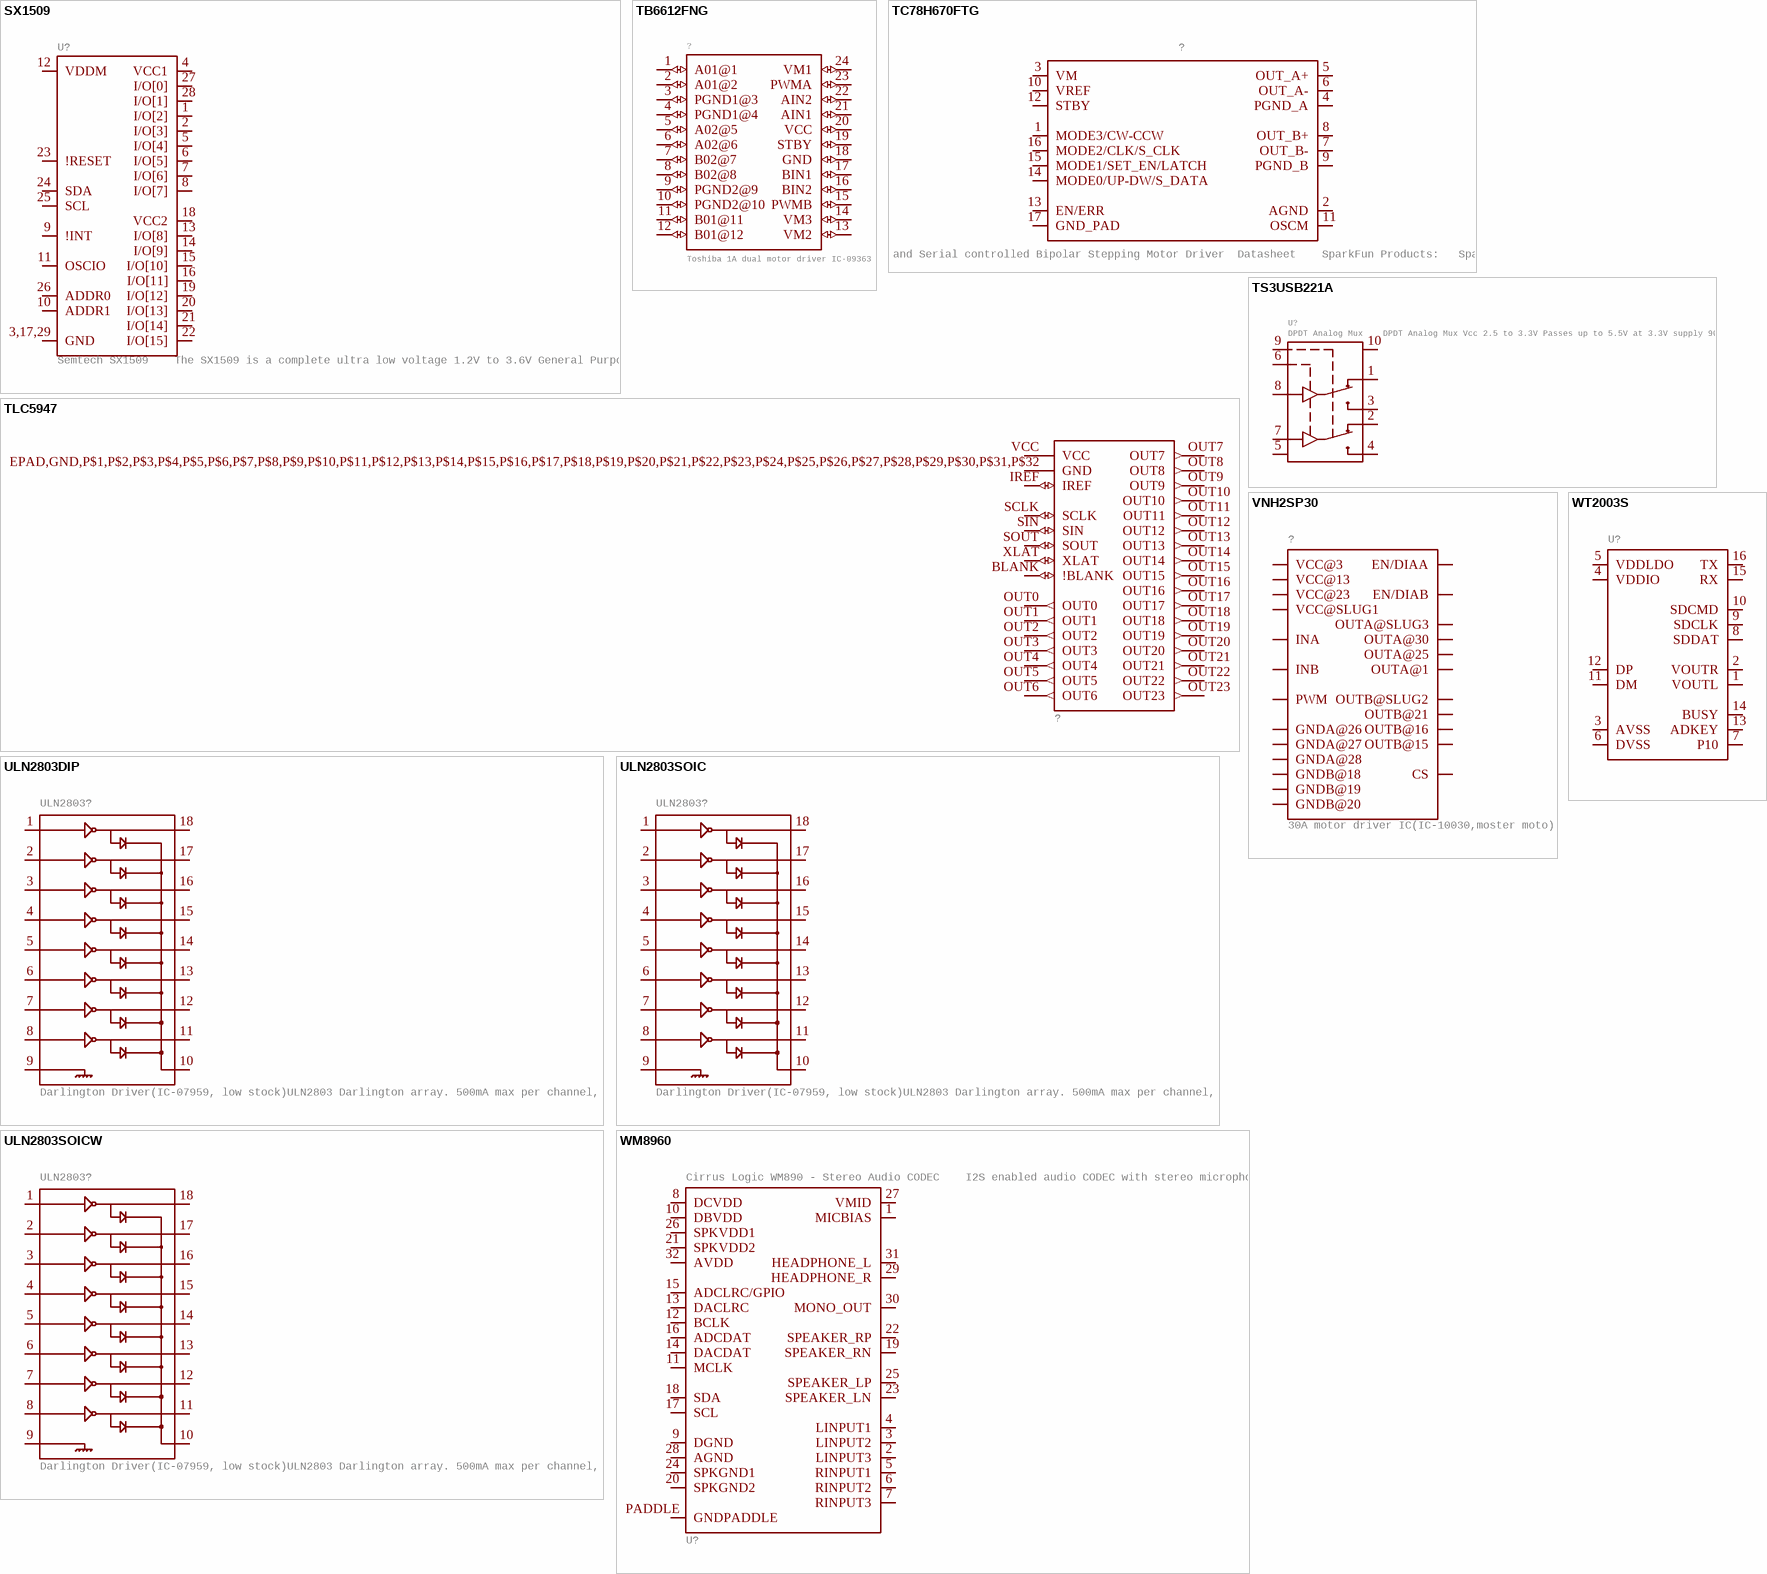
[diagram p3: symbols SX1509 to WT2003S]

## SX1509
designator U?, comment Semtech SX1509    The SX1509 is a complete ultra low voltage 1.2V to 3.6V General Purpose parallel Input/Output (GPIO) expanders ideal for low power handheld battery powered equipment. This version comes in a 16-channel configuration and allows easy serial expansion of I/O through a standard 400kHz I2C interface. GPIO devices can provide additional control and monitoring when the microcontroller or chipset has insufficient I/O ports, or in systems where serial communication and control from a remote location is advantageous.   Datasheet SparkFun Products  SparkFun 16 Output I/O Expander Breakout - SX1509 (BOB-13601)  SparkFun Line Follower Array (SEN-13582)
GateName_1: G$1; PROD_ID: IC-11311; SymbolName_1: SX1509; LibraryName: SparkFun-IC-Special-Function; DeviceSetName: SX1509; Package: QFN-28
footprint QFN-28
pins: 1 I/O[2] (io), 2 I/O[3] (io), 3,17,29 GND (io), 4 VCC1 (io), 5 I/O[4] (io), 6 I/O[5] (io), 7 I/O[6] (io), 8 I/O[7] (io), 9 !INT (io), 10 ADDR1 (io), 11 OSCIO (io), 12 VDDM (io), 13 I/O[8] (io), 14 I/O[9] (io), 15 I/O[10] (io), 16 I/O[11] (io), 18 VCC2 (io), 19 I/O[12] (io), 20 I/O[13] (io), 21 I/O[14] (io), 22 I/O[15] (io), 23 !RESET (io), 24 SDA (io), 25 SCL (io), 26 ADDR0 (io), 27 I/O[0] (io), 28 I/O[1] (io)

## TB6612FNG
designator ?, comment Toshiba 1A dual motor driver IC-09363
GateName_1: G$1; SymbolName_1: TB6612FNG; LibraryName: SparkFun-IC-Special-Function; DeviceSetName: TB6612FNG; Package: SSOP24; PROD_ID: IC-09363
footprint SSOP24
pins: 1 A01@1 (io), 2 A01@2 (io), 3 PGND1@3 (io), 4 PGND1@4 (io), 5 A02@5 (io), 6 A02@6 (io), 7 B02@7 (io), 8 B02@8 (io), 9 PGND2@9 (io), 10 PGND2@10 (io), 11 B01@11 (io), 12 B01@12 (io), 13 VM2 (io), 14 VM3 (io), 15 PWMB (io), 16 BIN2 (io), 17 BIN1 (io), 18 GND (io), 19 STBY (io), 20 VCC (io), 21 AIN1 (io), 22 AIN2 (io), 23 PWMA (io), 24 VM1 (io)

## TC78H670FTG
designator ?, comment Toshiba TC78H670FTG Stepper Motor Driver    Clock-in and Serial controlled Bipolar Stepping Motor Driver  Datasheet    SparkFun Products:   SparkFun ProDriver - Stepper Motor Driver (TC78H670FTG)
GateName_1: G$1; PROD_ID: IC-15170; SymbolName_1: TC78H670FTG; LibraryName: SparkFun-IC-Special-Function; DeviceSetName: TC78H670FTG; Package: P-VQFN16-0303-0.50-001
footprint P-VQFN16-0303-0.50-001
pins: 1 MODE3/CW-CCW (io), 2 AGND (io), 3 VM (io), 4 PGND_A (io), 5 OUT_A+ (io), 6 OUT_A- (io), 7 OUT_B- (io), 8 OUT_B+ (io), 9 PGND_B (io), 10 VREF (io), 11 OSCM (io), 12 STBY (io), 13 EN/ERR (io), 14 MODE0/UP-DW/S_DATA (io), 15 MODE1/SET_EN/LATCH (io), 16 MODE2/CLK/S_CLK (io), 17 GND_PAD (io)

## TLC5947
designator ?, comment TI TLC5947 24-channel 12-bit constant current PWM driver    The TLC5947 is a 24-channel, constant-current sink LED driver. Each channel is individually adjustable with 4096 pulse-width modulated (PWM) steps. PWM control is repeated automatically with the programmed grayscale (GS) data. GS data are written via a serial interface port. The current value of all 24 channels is set by a single external resistor.The TLC5947 has a thermal shutdown (TSD) function that turns off all output drivers during an over-temperature condition. All of the output drivers automatically restart when the temperature returns to normal conditions.    SparkFun Products: [PRODUCT 1]  (value not drawn)
GateName_1: G$1; PROD_ID: IC-13817; SymbolName_1: TLC5947; LibraryName: SparkFun-IC-Special-Function; DeviceSetName: TLC5947; Package: HTSSOP32
footprint HTSSOP32
pins: BLANK !BLANK (io), EPAD,GND,P$1,P$2,P$3,P$4,P$5,P$6,P$7,P$8,P$9,P$10,P$11,P$12,P$13,P$14,P$15,P$16,P$17,P$18,P$19,P$20,P$21,P$22,P$23,P$24,P$25,P$26,P$27,P$28,P$29,P$30,P$31,P$32 GND (power), IREF (io), OUT0 (out), OUT1 (out), OUT2 (out), OUT3 (out), OUT4 (out), OUT5 (out), OUT6 (out), OUT7 (out), OUT8 (out), OUT9 (out), OUT10 (out), OUT11 (out), OUT12 (out), OUT13 (out), OUT14 (out), OUT15 (out), OUT16 (out), OUT17 (out), OUT18 (out), OUT19 (out), OUT20 (out), OUT21 (out), OUT22 (out), OUT23 (out), SCLK (io), SIN (io), SOUT (io), VCC (power), XLAT (io)

## TS3USB221A
designator U?, comment DPDT Analog Mux    DPDT Analog Mux Vcc 2.5 to 3.3V Passes up to 5.5V at 3.3V supply 900MHz BW, 6Ω switch resistance  SparkFun Products  SparkFun FTDI SmartBasic (DEV-12935)
GateName_1: G$1; SymbolName_1: TS3USB221A; PROD_ID: IC-12115; LibraryName: SparkFun-IC-Special-Function; DeviceSetName: TS3USB221A; Package: QFN-10-RSE
footprint QFN-10-RSE
pins: 1 1D+ (io), 2 1D- (io), 3 2D+ (io), 4 2D- (io), 5 VSS (io), 6 !OE (io), 7 D- (io), 8 D+ (io), 9 S (io), 10 VCC (io)

## ULN2803DIP
designator ULN2803?, comment Darlington Driver(IC-07959, low stock)ULN2803 Darlington array. 500mA max per channel, 8-channel package. Spark Fun Electronics SKU : COM-00312
GateName_1: G$1; DeviceName: DIP; SymbolName_1: ULN2803; LibraryName: SparkFun-IC-Special-Function; DeviceSetName: ULN2803; Package: DIL18
footprint DIL18
pins: 1 (io), 2 (io), 3 (io), 4 (io), 5 (io), 6 (io), 7 (io), 8 (io), 9 (io), 10 (io), 11 (io), 12 (io), 13 (io), 14 (io), 15 (io), 16 (io), 17 (io), 18 (io)

## ULN2803SOIC
designator ULN2803?, comment Darlington Driver(IC-07959, low stock)ULN2803 Darlington array. 500mA max per channel, 8-channel package. Spark Fun Electronics SKU : COM-00312
GateName_1: G$1; DeviceName: SOIC; SymbolName_1: ULN2803; LibraryName: SparkFun-IC-Special-Function; DeviceSetName: ULN2803; Package: SO018
footprint SO018
pins: 1 (io), 2 (io), 3 (io), 4 (io), 5 (io), 6 (io), 7 (io), 8 (io), 9 (io), 10 (io), 11 (io), 12 (io), 13 (io), 14 (io), 15 (io), 16 (io), 17 (io), 18 (io)

## ULN2803SOICW
designator ULN2803?, comment Darlington Driver(IC-07959, low stock)ULN2803 Darlington array. 500mA max per channel, 8-channel package. Spark Fun Electronics SKU : COM-00312
GateName_1: G$1; DeviceName: SOICW; SymbolName_1: ULN2803; LibraryName: SparkFun-IC-Special-Function; DeviceSetName: ULN2803; Package: SO18L
footprint SO18L
pins: 1 (io), 2 (io), 3 (io), 4 (io), 5 (io), 6 (io), 7 (io), 8 (io), 9 (io), 10 (io), 11 (io), 12 (io), 13 (io), 14 (io), 15 (io), 16 (io), 17 (io), 18 (io)

## VNH2SP30
designator ?, comment 30A motor driver IC(IC-10030,moster moto)
GateName_1: G$1; SymbolName_1: VNH2SP30; LibraryName: SparkFun-IC-Special-Function; DeviceSetName: VNH2SP30; Package: VNH2SP30
footprint VNH2SP30
pins: 1 OUTA@1 (io), 3 VCC@3 (io), 5 INA (io), 6 EN/DIAA (io), 8 PWM (io), 9 CS (io), 10 EN/DIAB (io), 11 INB (io), 13 VCC@13 (io), 15 OUTB@15 (io), 16 OUTB@16 (io), 18 GNDB@18 (io), 19 GNDB@19 (io), 20 GNDB@20 (io), 21 OUTB@21 (io), 23 VCC@23 (io), 25 OUTA@25 (io), 26 GNDA@26 (io), 27 GNDA@27 (io), 28 GNDA@28 (io), 30 OUTA@30 (io), SLUG1 VCC@SLUG1 (io), SLUG2 OUTB@SLUG2 (io), SLUG3 OUTA@SLUG3 (io)

## WM8960
designator U?, comment Cirrus Logic WM890 - Stereo Audio CODEC    I2S enabled audio CODEC with stereo microphone input ADC's and stereo audio output DAC's. Onboard 1W Class D Speaker driver is also capable of driving an 8 Ohm speaker. Also has an onboard headphone driver.
GateName_1: G$1; SymbolName_1: WM8960; PROD_ID: IC-14824; LibraryName: SparkFun-IC-Special-Function; DeviceSetName: WM8960; Package: QFN-32
footprint QFN-32
pins: 1 MICBIAS (io), 2 LINPUT3 (io), 3 LINPUT2 (io), 4 LINPUT1 (io), 5 RINPUT1 (io), 6 RINPUT2 (io), 7 RINPUT3 (io), 8 DCVDD (io), 9 DGND (io), 10 DBVDD (io), 11 MCLK (io), 12 BCLK (io), 13 DACLRC (io), 14 DACDAT (io), 15 ADCLRC/GPIO (io), 16 ADCDAT (io), 17 SCL (io), 18 SDA (io), 19 SPEAKER_RN (io), 20 SPKGND2 (io), 21 SPKVDD2 (io), 22 SPEAKER_RP (io), 23 SPEAKER_LN (io), 24 SPKGND1 (io), 25 SPEAKER_LP (io), 26 SPKVDD1 (io), 27 VMID (io), 28 AGND (io), 29 HEADPHONE_R (io), 30 MONO_OUT (io), 31 HEADPHONE_L (io), 32 AVDD (io), PADDLE GNDPADDLE (io)

## WT2003S
designator U?
GateName_1: U1; SymbolName_1: WT2003S; PROD_ID: IC-14204; LibraryName: SparkFun-IC-Special-Function; DeviceSetName: WT2003S; Package: SO16
footprint SO16
pins: 1 VOUTL (io), 2 VOUTR (io), 3 AVSS (io), 4 VDDIO (io), 5 VDDLDO (io), 6 DVSS (io), 7 P10 (io), 8 SDDAT (io), 9 SDCLK (io), 10 SDCMD (io), 11 DM (io), 12 DP (io), 13 ADKEY (io), 14 BUSY (io), 15 RX (io), 16 TX (io)